# Altium footprint library DPAK3.PcbLib: 1 footprints
Each footprint in its own frame and in the unit in brackets; x right, y up, seen from the top. Pads: shape width x height; smd on the part's side, far side on the other; paste and mask are expansions set on the pad; w line width, h text height; cw(c..) or ccw(c..) is an arc to the next point about the centre after c.
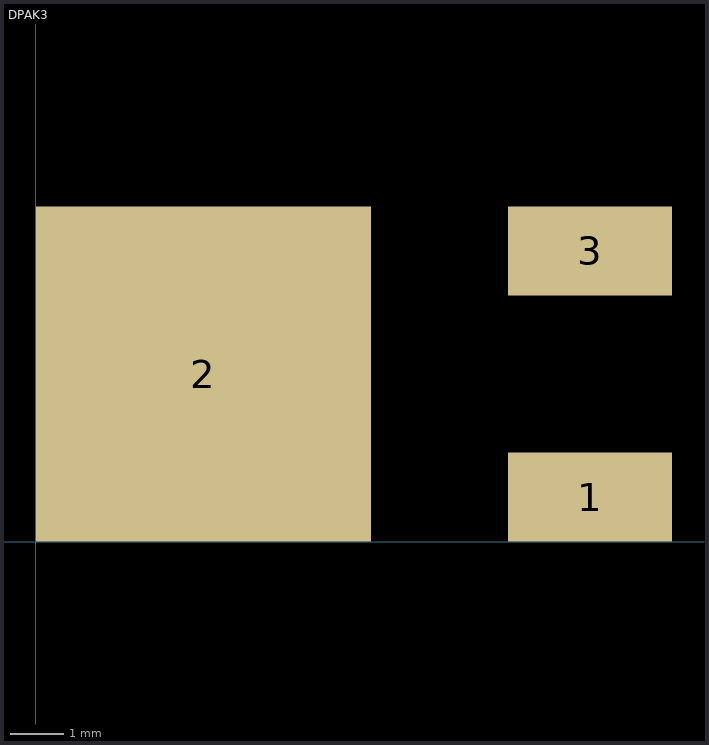
[diagram p0: the footprint, top view; thin cyan lines are the x and y axes]

## DPAK3 [mil]
pads (3):
  rect 120x65 smd: 1(405,32.5) 3(405,212.5)
  rect 245x245 smd: 2(122.5,122.5)
3D body "DPAK(2-7K1S).STEP": height 93.31, standoff 0, extent 22.4,-9.92 416.1,249.92